# Altium footprint library CAPRR254W50L508T317H508.PcbLib: 1 footprints
Each footprint in its own frame and in the unit in brackets; x right, y up, seen from the top. Pads: shape width x height; smd on the part's side, far side on the other; paste and mask are expansions set on the pad; w line width, h text height; cw(c..) or ccw(c..) is an arc to the next point about the centre after c.
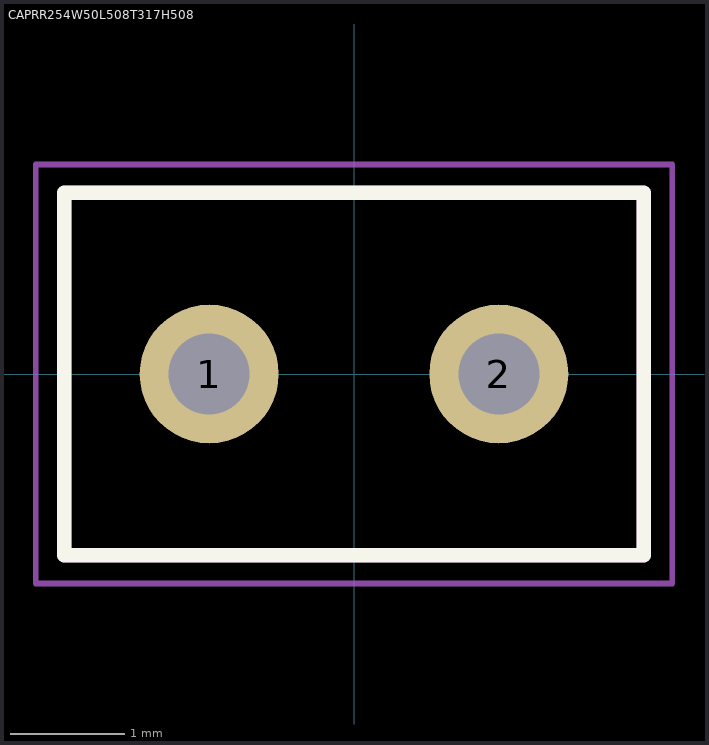
[diagram p0: the footprint, top view; thin cyan lines are the x and y axes]

## CAPRR254W50L508T317H508 [mm]
height 5.08
pads (2):
  round 1.218 hole 0.71: 1(-1.27,0) 2(1.27,0)
Top Overlay:
  lines w0.127: -2.54,-1.587 2.54,-1.587 2.54,1.587 -2.54,1.587 -2.54,-1.587
Mechanical 13:
  lines w0.127: -2.54,-1.587 2.54,-1.587 2.54,1.587 -2.54,1.587 -2.54,-1.587
Mechanical 15:
  lines w0.05: -2.79,-1.837 2.79,-1.837 2.79,1.837 -2.79,1.837 -2.79,-1.837
3D body "C320C104M5U5TA--3DModel-STEP-510211.STEP": height 6.85, standoff -6.49, extent -2.538,-1.651 2.538,1.529